# Altium schematic symbol library RES-SPLIT-3.Schlib: 1 symbol
Pins are listed as number, name and electrical type; pins without a type are passive.

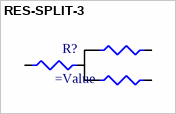
[diagram p0: symbol RES-SPLIT-3]

## RES-SPLIT-3
designator R?
pins: 1, 2, 3